# Altium schematic symbol library CAP_POL.SchLib: 1 symbol
Pins are listed as number, name and electrical type; pins without a type are passive.

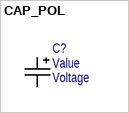
[diagram p0: symbol CAP_POL]

## CAP_POL
designator C?  (value not drawn)
Поляризованный конденсатор (1 пин - плюс); Case: Case; Value: Value; Voltage: Voltage
pins: 1, 2